# EAGLE library part AD5764 (library analog-devices)
QUAD DAC 16-Bit, High Accuracy, Serial Input, Bipolar Voltage Output
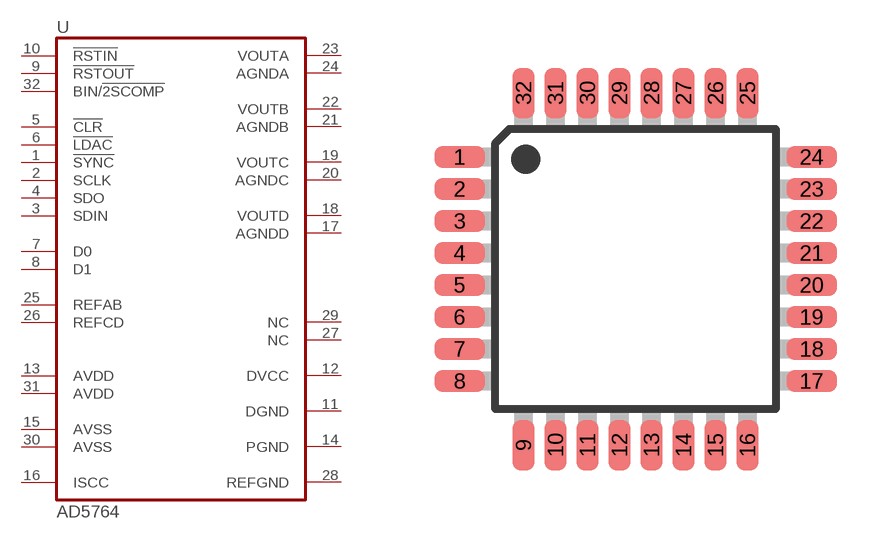
[diagram p70: symbol with the pads of TQFP32; footprint TQFP32]

Designator prefix U

## AD5764  [TQFP32]
1  !SYNC!  in
2  SCLK  in
3  SDIN  in
4  SDO
5  !CLR!  pas
6  !LDAC!  in
7  D0
8  D1
9  !RSTOUT!  out
10  !RSTIN!  in
11  DGND  pwr
12  DVCC  pwr
13  AVDD  pwr
14  PGND  pwr
15  AVSS  pwr
16  ISCC
17  AGNDD  pwr
18  VOUTD  out
19  VOUTC  out
20  AGNDC  pwr
21  AGNDB  pwr
22  VOUTB  out
23  VOUTA  out
24  AGNDA  pwr
25  REFAB
26  REFCD
27  NC
28  REFGND  pwr
29  NC
30  AVSS  pwr
31  AVDD  pwr
32  BIN/!2SCOMP!  in

## Footprint TQFP32 (pad centres in mm)
Thin Plasic Quad Flat Package body 7 x 7 mm, pitch 0.8 mm
smd 1.27 x 0.559: 1 -4.4,2.8; 2 -4.4,2; 3 -4.4,1.2; 4 -4.4,0.4; 5 -4.4,-0.4; 6 -4.4,-1.2; 7 -4.4,-2; 8 -4.4,-2.8; 17 4.4,-2.8; 18 4.4,-2; 19 4.4,-1.2; 20 4.4,-0.4; 21 4.4,0.4; 22 4.4,1.2; 23 4.4,2; 24 4.4,2.8
smd 0.559 x 1.27: 9 -2.8,-4.4; 10 -2,-4.4; 11 -1.2,-4.4; 12 -0.4,-4.4; 13 0.4,-4.4; 14 1.2,-4.4; 15 2,-4.4; 16 2.8,-4.4; 25 2.8,4.4; 26 2,4.4; 27 1.2,4.4; 28 0.4,4.4; 29 -0.4,4.4; 30 -1.2,4.4; 31 -2,4.4; 32 -2.8,4.4